# Altium integrated library Resistor.IntLib: 12 symbols
Pins are listed as number, name and electrical type; pins without a type are passive.

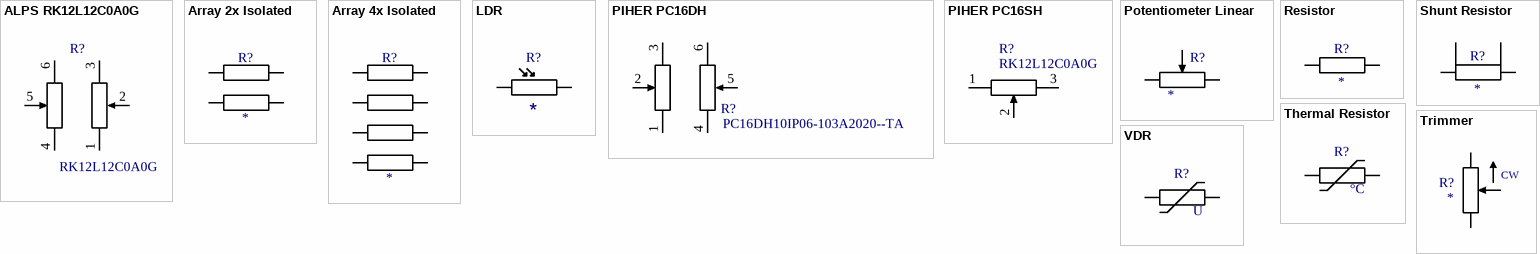
[diagram p0: symbols ALPS RK12L12C0A0G to VDR]

## ALPS RK12L12C0A0G
designator R?, comment RK12L12C0A0G
Potentiometer; Manufacturer: ALPS; Value: RK12L12C0A0G; Mouser No.: 688-RK12L12C0A0G
footprint ALPS RK12L12C0A0G (POTENTIOMETER 12MM V/ADJ)
pins: 1, 2, 3, 4, 5, 6

## Array 2x Isolated
designator R?
Array 2x Isolated; Value: *
footprint ARRAY EXB24V (Chip Resistor Array, Panasonic)
pins: 1, 2, 3, 4

## Array 4x Isolated
designator R?
Array 4x Isolated; Value: *
footprint ARRAY EXB18V (Chip Resistor Array, Panasonic)
footprint ARRAY EXB28V (Chip Resistor Array, Panasonic)
footprint ARRAY EXBN8V (Chip Resistor Array, Panasonic)
pins: 1, 2, 3, 4, 5, 6, 7, 8

## LDR
designator R?
Light Dependent Resistor; Value: *
footprint LDR VT900 (Light Dependent Resistor VT900 Series)
pins: 1, 2

## PIHER PC16DH
designator R?, comment PC16DH10IP06-103A2020--TA
Potentiometer; Manufacturer: PIHER; Value: PC16DH10IP06-103A2020--TA; Distrelec No.: 164-27-124
footprint PIHER PC16DH (POTENTIOMETER)
pins: 1, 2, 3, 4, 5, 6

## PIHER PC16SH
designator R?, comment RK12L12C0A0G
Potentiometer; Manufacturer: ALPS; Value: RK12L12C0A0G; Mouser No.: 688-RK12L12C0A0G
footprint PIHER PC16SH (POTENTIOMETER)
pins: 1, 2, 3

## Potentiometer Linear
designator R?
Potentiometer Linear; Value: *
footprint Potentimeter Bourns TPA6043
footprint Potentimeter Bourns TPA4543
pins: 1, 2 WIPER, 3

## Resistor
designator R?
Resistor; Value: *
footprint RESISTOR Radial P5.0 C13.0x9.0 (Resistor Radial pitch 5mm, 5 Watts)
footprint RESISTOR 1005 REFLOW (Resistor SMD 1.0x0.5mm (0402-imperial))
footprint RESISTOR 1608 REFLOW (Resistor SMD 1.6x0.8mm (0603-imperial))
footprint RESISTOR 2012 REFLOW (Resistor SMD 2.0x1.2mm (0805-imperial))
footprint RESISTOR 3216 REFLOW (Resistor SMD 3.2x1.6mm (1206-imperial))
footprint RESISTOR Axial P27.0 C22.0x8.0 (Resistor axial pitch 27mm, 5 Watts)
footprint RESISTOR 0603 REFLOW (Resistor SMD 0.6x0.3mm (0201-imperial))
footprint RESISTOR Axial P10.0 D2.5 L6.5 (Resistor axial pitch 10mm, 0.25 Watts)
footprint RESISTOR Axial P15.0 D5.0 L10.0 (Resistor axial pitch 15mm, 3.0 Watts)
footprint RESISTOR Axial P20.0 D5.0 L14.0 (Resistor axial pitch 20mm, 3.0 Watts)
footprint RESISTOR 3225 REFLOW (Chip Capacitor, 2-Leads, Body 3.20x2.50mm, IPC Medium Density)
footprint RESISTOR 6432 REFLOW (Chip Capacitor, 2-Leads, Body 6.40x3.20mm, IPC Medium Density)
footprint RESISTOR Axial P17.5 D5.0 L14.0 (Resistor axial pitch 17.5mm, 3.0 Watts)
footprint RESISTOR Axial P60.0 C10.0X10.0 L50.0 (Resistor axial pitch 60mm, 10.0 Watts)
footprint RESISTOR MMA 0204 MINIMELF (Resistor SMD 3.8x1.5mm)
footprint RESISTOR MMB 0207 MELF (Resistor SMD 6.0x2.4mm)
footprint RESISTOR 7146 REFLOW (Chip Resistor, 2-Leads, Body 7.10x4.60mm, IPC Medium Density)
footprint RESISTOR Axial P2.5 D2.5 L6.5 (Resistor axial pitch 10mm, 0.25 Watts)
footprint RESISTOR 15078 REFLOW (Shunt Resistor, 2-Leads, Body 15.0x7.8mm, IPC Medium Density)
pins: 1, 2

## Shunt Resistor
designator R?
Shunt Resistor with Kelvin connections; Value: *
footprint Shunt Resistor KOA PSG4 (4 Terminal current sensing power shunt)
pins: 1, 2, 3, 4

## Thermal Resistor
designator R?  (value not drawn)
Thermal Resistor; Value: *
footprint RESISTOR Radial P5.0 C13.0x9.0 (Resistor Radial pitch 5mm, 5 Watts)
footprint RESISTOR 1005 REFLOW (Resistor SMD 1.0x0.5mm (0402-imperial))
footprint RESISTOR 1608 REFLOW (Resistor SMD 1.6x0.8mm (0603-imperial))
footprint RESISTOR 2012 REFLOW (Resistor SMD 2.0x1.2mm (0805-imperial))
footprint RESISTOR 3216 REFLOW (Resistor SMD 3.2x1.6mm (1206-imperial))
footprint RESISTOR Axial P27.0 C22.0x8.0 (Resistor axial pitch 27mm, 5 Watts)
footprint RESISTOR 0603 REFLOW (Resistor SMD 0.6x0.3mm (0201-imperial))
footprint RESISTOR Axial P10.0 D2.5 L6.5 (Resistor axial pitch 10mm, 0.25 Watts)
footprint TO92 (TO92, Diameter  5mm, Height 9mm)
footprint RESISTOR NTC P7.5 D13.0 (Resistor NTC pitch 7.5mm, Diam. 15.0)
pins: 1, 2
text: °C

## Trimmer
designator R?
Trimmer; Value: *; CW: CW
footprint Trimmer BOURNS 3266W (Trimmer Bourns 3266W P2.54 C7x5)
footprint Trimmer BOURNS TC33X-2 (Trimmer Bourns TC33X-2)
footprint Trimmer BOURNS 3223W (Trimmer Bourns 3223W C3.9x3.2)
footprint Trimmer BI 72PTR (Trimmer Bourns BI 72PTR P2.54 C10x10)
footprint Trimmer BOURNS 3006P (Trimmer Bourns 3006P P2.54 C19.1x4.9)
footprint Trimmer PIHER PT15 (Trimmer PIHER PT15 Diameter 15mm)
footprint Trimmer BOURNS 3266P (Trimmer Bourns 3266P P2.54 C6.8x6.8)
footprint Trimmer BOURNS 3362F (Trimmer Bourns 3362F P5.08 C6.6x6.9)
pins: 1, 2 WIPER, 3

## VDR
designator R?  (value not drawn)
Varistor; Value: *
footprint VDR P7.5 D15.6 (Varistor P10.0mm, Diam. 14.0, Heignt 15)
pins: 1, 2
text: U